# Altium schematic symbol library MP901.SchLib: 1 symbol
Pins are listed as number, name and electrical type; pins without a type are passive.

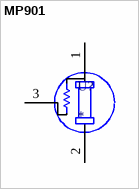
[diagram p0: symbol MP901]

## MP901
designator U?
pins: 1, 2, 3